# Altium integrated library TI_Logic_Flip-Flop,Latch,Register.IntLib: 2598 symbols (part 25 of 122)
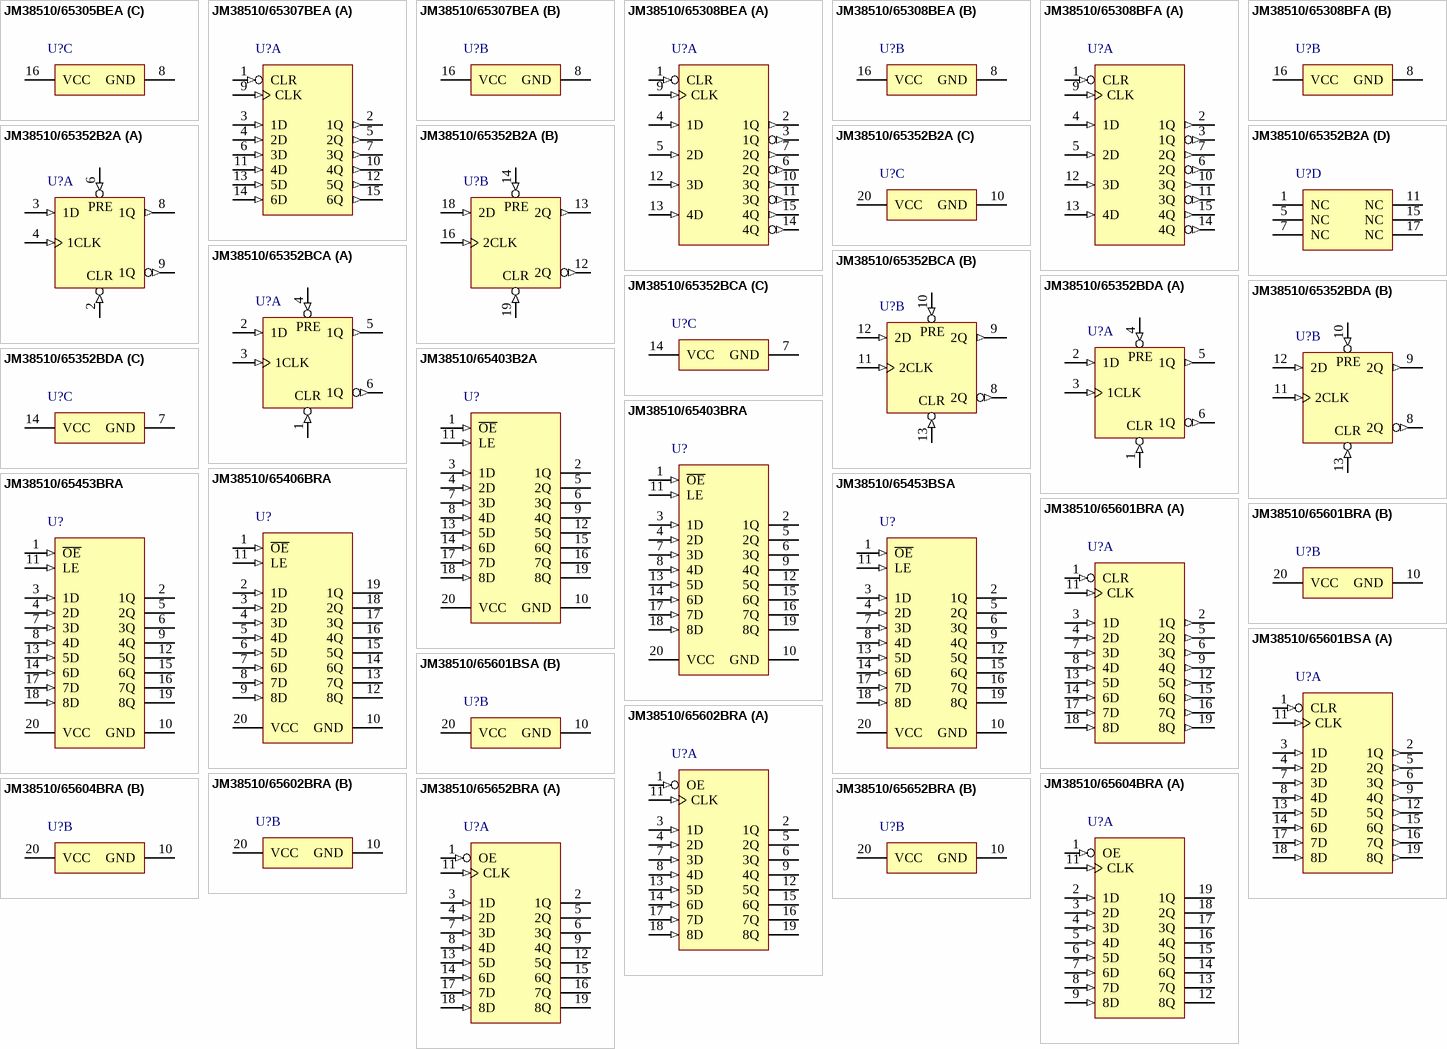
[diagram p163: symbols JM38510/65305BEA to JM38510/65652BRA]

## JM38510/65652BRA
designator U?
Octal D-type Edge-Triggered Flip-Flops with 3-State Outputs, J0020A, TUBE; Generic Part Number: SN54HCT374; Manufacturer: Texas Instruments; PartNumber: JM38510/65652BRA; VCC(Min)(V): 4.5; VCC(Max)(V): 5.5; Output Type: CMOS; ICC @ Nom Voltage(Max)(mA): 0.08; Input Type: TTL; Bits(#): 8; F @ Nom Voltage(Max)(Mhz): 25; Rating: Military; Technology Family: HCT; Schmitt Trigger: No; Output Drive (IOL/IOH)(Max)(mA): 6/-6; Output Logic: Non-inverted; 3-State Output: Yes; tpd @ Nom Voltage(Max)(ns): 41; DatasheetVersion: SCLS005D; PackageReference: J0020A; Operating Temperature Range(C): -55 to 125; ComponentLink1Description: Manufacturer URL; ComponentLink1URL: http://www.ti.com/; ComponentLink2Description: Datasheet; ComponentLink2URL: http://www.ti.com/lit/ds/symlink/sn54hct374.pdf; ComponentLink3Description: Package Specification; ComponentLink3URL: http://www.ti.com/lit/ml/mcer002d/mcer002d.pdf
footprint J0020A (DIP, 20-Leads, Body 26.9x7.2mm, Pitch 2.54mm)
part A pins: 1 OE (in), 2 1Q (hiz), 3 1D (in), 4 2D (in), 5 2Q (hiz), 6 3Q (hiz), 7 3D (in), 8 4D (in), 9 4Q (hiz), 11 CLK (in), 12 5Q (hiz), 13 5D (in), 14 6D (in), 15 6Q (hiz), 16 7Q (hiz), 17 7D (in), 18 8D (in), 19 8Q (hiz)
part B pins: 10 GND (power), 20 VCC (power)

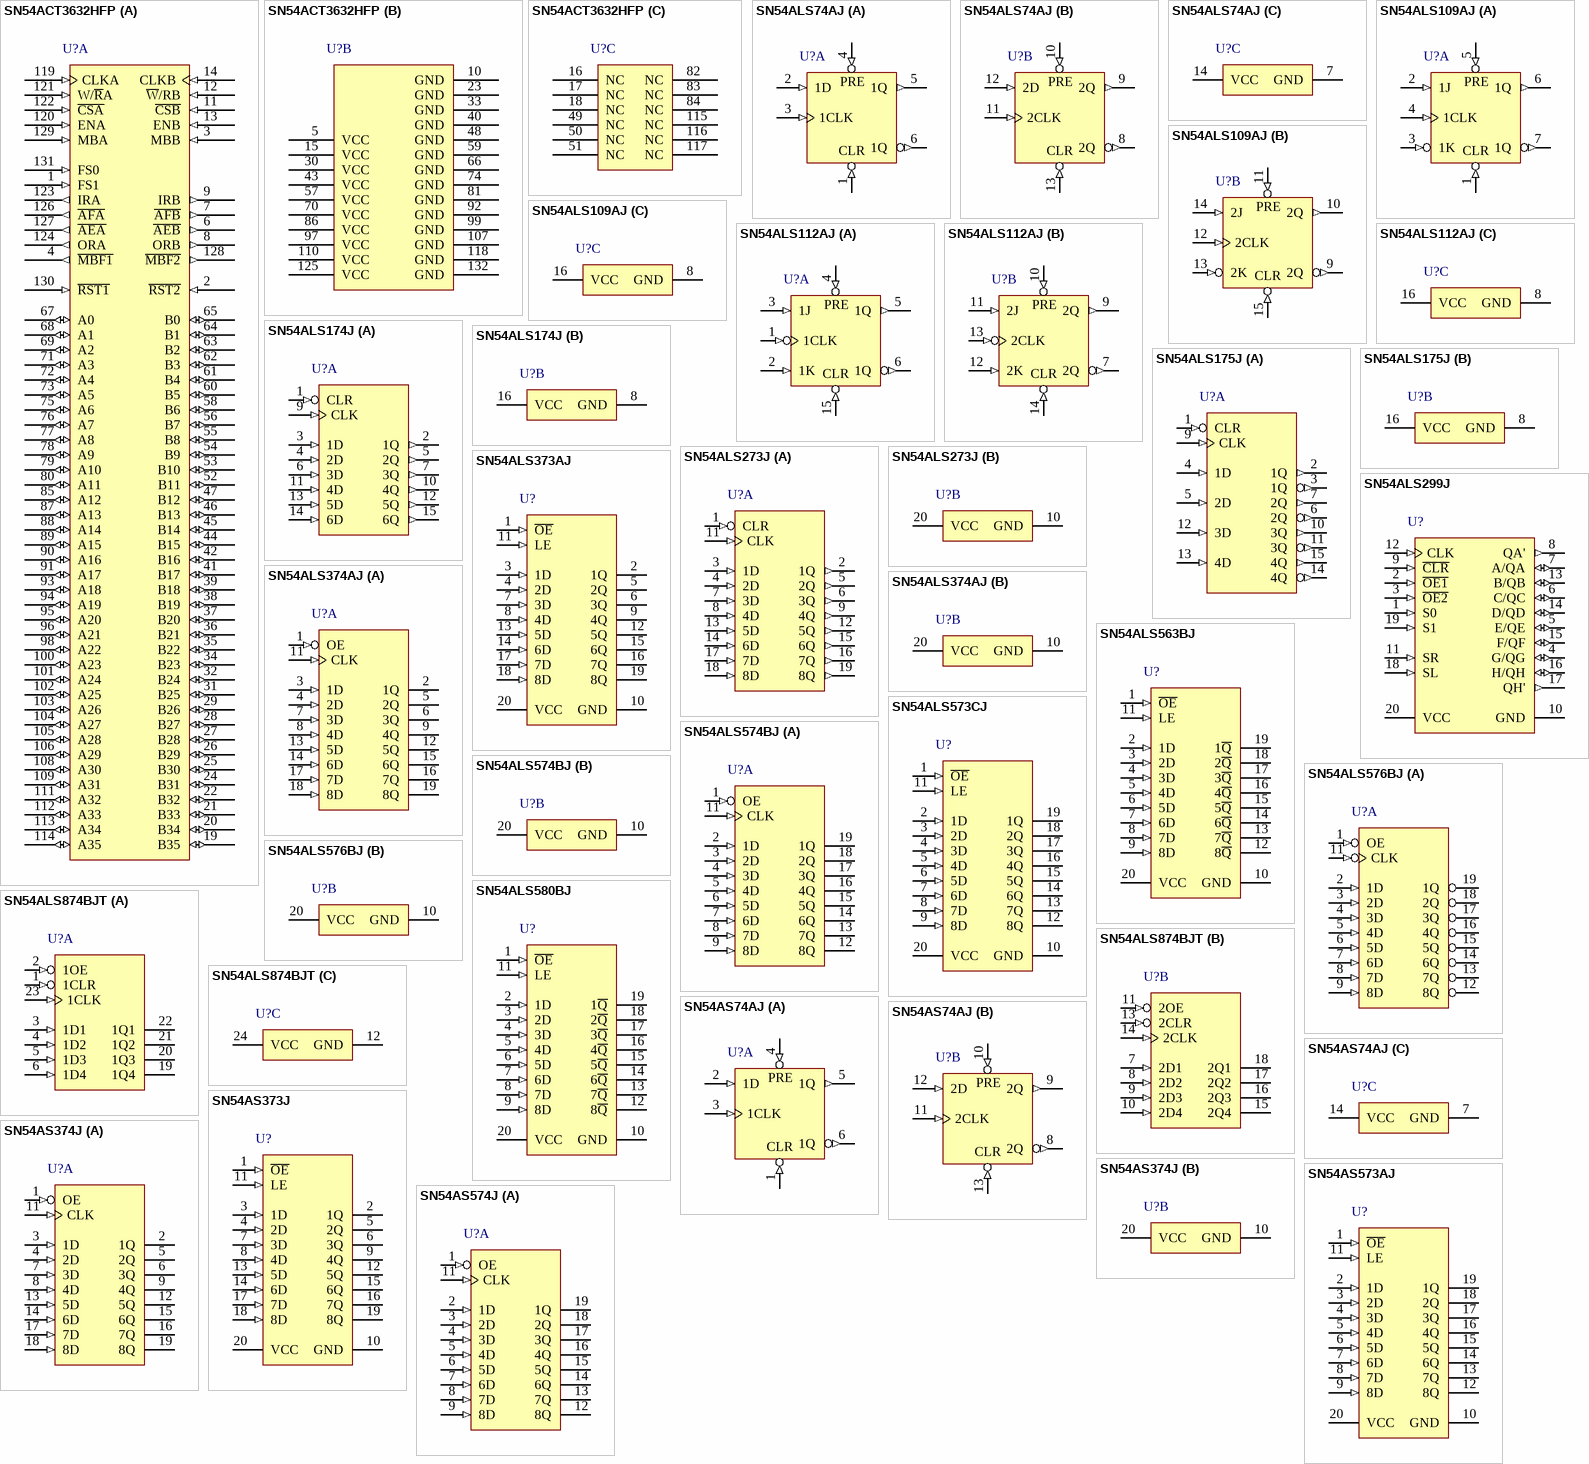
[diagram p36: symbols SN54ACT3632HFP to SN54AS574J]

## SN54ACT3632HFP
designator U?
512 x 36 x 2 Synchronous Bidirectional FIFO Memory, HFP-132, JEDEC TRAY (5+1); Generic Part Number: SN54ACT3632; Manufacturer: Texas Instruments; PartNumber: SN54ACT3632HFP; Vcc range(V): 4.5 to 5.5; Fmax(MHz): 50; Voltage Nodes(V): 5; Sync/Async: S; Rating: Military; DatasheetVersion: SGBS310A; PackageReference: HFP0132A; Depth: 512; Width: 36; Operating Temperature Range(C): -55 to 125; ComponentLink1Description: Manufacturer URL; ComponentLink1URL: http://www.ti.com/; ComponentLink2Description: Datasheet; ComponentLink2URL: http://www.ti.com/lit/ds/symlink/sn54act3632.pdf; ComponentLink3Description: Package Specification; ComponentLink3URL: http://www.ti.com/lit/ml/mgqf011/mgqf011.pdf
footprint HFP0132A_N (CQFP, 132-Leads, Body 24.13x24.13mm, Pitch 0.635mm, IPC Medium Density)
footprint HFP0132A_M (CQFP, 132-Leads, Body 24.13x24.13mm, Pitch 0.635mm, IPC Low Density)
footprint HFP0132A_L (CQFP, 132-Leads, Body 24.13x24.13mm, Pitch 0.635mm, IPC High Density)
part A pins: 1 FS1 (in) "Flag-offset selects. The low-to-high transition of a FIFO reset input latches the values of FS0 and FS1. If either FS0 or FS1 is high when a reset input goes high, one of three preset values is selected as the offset for the (See Datasheet)", 2 ~{RST2} (in) "FIFO2 reset. To reset FIFO2, four low-to-high transitions of CLKA and four low-to-high transitions of CLKB must occur while R\S\T\2\ is low. The low-to-high transition of R\S\T\2\ latches the status of FS0 and FS1 for A\F\B\ (See Datasheet)", 3 MBB (in) "Port-B mailbox select. A high level on MBB chooses a mailbox register for a port-B read or write operation. When the B0-B35 outputs are active, a high level on MBB selects data from the mail1 register for output and a low (See Datasheet)", 4 ~{MBF1} (out) "Mail1 register flag. M\B\F\1\ is set low by the low-to-high transition of CLKA that writes data to the mail1 register. Writes to the mail1 register are inhibited while M\B\F\1\ is low. M\B\F\1\ is set high by a low-to-high (See Datasheet)", 6 ~{AEB} (out) "Port-B almost-empty flag. Programmable flag synchronized to CLKB. A\E\B\ is low when the number of words in FIFO1 is less than or equal to the value in the almost-empty B offset register, X1.", 7 ~{AFB} (out) "Port-B almost-full flag. Programmable flag synchronized to CLKB. A\F\B\ is low when the number of empty locations in FIFO2 is less than or equal to the value in the almost-full B offset register, Y2.", 8 ORB (out) "Output-ready flag. ORB is synchronized to the low-to-high transition of CLKB. When ORB is low, FIFO1 is empty and reads from its memory are disabled. Ready data is present on the output register of FIFO1 when ORB is high. (See Datasheet)", 9 IRB (out) "Input-ready flag. IRB is synchronized to the low-to-high transition of CLKB. When IRB is low, FIFO2 is full and writes to its array are disabled. IRB is set low when FIFO2 is reset and is set high on the second low-to-high (See Datasheet)", 11 ~{CSB} (in) "Port-B chip select. C\S\B\ must be low to enable a low-to-high transition of CLKB to read or write data on port B. The B0-B35 outputs are in the high-impedance state when C\S\B\ is high.", 12 ~{W}/RB (in) "Port-B write/read select. A low on W\/RB selects a write operation and a high selects a read operation on port B for a low-to-high transition of CLKB. The B0-B35 outputs are in the high-impedance state when W\/RB is low.", 13 ENB (in) "Port-B enable. ENB must be high to enable a low-to-high transition of CLKB to read or write data on port B", 14 CLKB (in) "Port-B clock. CLKB is a continuous clock that synchronizes all data transfers through port B and can be asynchronous or coincident to CLKA. IRB, ORB, A\F\B\, and A\E\B\ are synchronized to the low-to-high transition of CLKB", 19 B35 (io) "Port-B data. The 36-bit bidirectional data port for side B.", 20 B34 (io) "Port-B data. The 36-bit bidirectional data port for side B.", 21 B33 (io) "Port-B data. The 36-bit bidirectional data port for side B.", 22 B32 (io) "Port-B data. The 36-bit bidirectional data port for side B.", 24 B31 (io) "Port-B data. The 36-bit bidirectional data port for side B.", 25 B30 (io) "Port-B data. The 36-bit bidirectional data port for side B.", 26 B29 (io) "Port-B data. The 36-bit bidirectional data port for side B.", 27 B28 (io) "Port-B data. The 36-bit bidirectional data port for side B.", 28 B27 (io) "Port-B data. The 36-bit bidirectional data port for side B.", 29 B26 (io) "Port-B data. The 36-bit bidirectional data port for side B.", 31 B25 (io) "Port-B data. The 36-bit bidirectional data port for side B.", 32 B24 (io) "Port-B data. The 36-bit bidirectional data port for side B.", 34 B23 (io) "Port-B data. The 36-bit bidirectional data port for side B.", 35 B22 (io) "Port-B data. The 36-bit bidirectional data port for side B.", 36 B21 (io) "Port-B data. The 36-bit bidirectional data port for side B.", 37 B20 (io) "Port-B data. The 36-bit bidirectional data port for side B.", 38 B19 (io) "Port-B data. The 36-bit bidirectional data port for side B.", 39 B18 (io) "Port-B data. The 36-bit bidirectional data port for side B.", 41 B17 (io) "Port-B data. The 36-bit bidirectional data port for side B.", 42 B16 (io) "Port-B data. The 36-bit bidirectional data port for side B.", 44 B15 (io) "Port-B data. The 36-bit bidirectional data port for side B.", 45 B14 (io) "Port-B data. The 36-bit bidirectional data port for side B.", 46 B13 (io) "Port-B data. The 36-bit bidirectional data port for side B.", 47 B12 (io) "Port-B data. The 36-bit bidirectional data port for side B.", 52 B11 (io) "Port-B data. The 36-bit bidirectional data port for side B.", 53 B10 (io) "Port-B data. The 36-bit bidirectional data port for side B.", 54 B9 (io) "Port-B data. The 36-bit bidirectional data port for side B.", 55 B8 (io) "Port-B data. The 36-bit bidirectional data port for side B.", 56 B7 (io) "Port-B data. The 36-bit bidirectional data port for side B.", 58 B6 (io) "Port-B data. The 36-bit bidirectional data port for side B.", 60 B5 (io) "Port-B data. The 36-bit bidirectional data port for side B.", 61 B4 (io) "Port-B data. The 36-bit bidirectional data port for side B.", 62 B3 (io) "Port-B data. The 36-bit bidirectional data port for side B.", 63 B2 (io) "Port-B data. The 36-bit bidirectional data port for side B.", 64 B1 (io) "Port-B data. The 36-bit bidirectional data port for side B.", 65 B0 (io) "Port-B data. The 36-bit bidirectional data port for side B.", 67 A0 (io) "Port-A data. The 36-bit bidirectional data port for side A.", 68 A1 (io) "Port-A data. The 36-bit bidirectional data port for side A.", 69 A2 (io) "Port-A data. The 36-bit bidirectional data port for side A.", 71 A3 (io) "Port-A data. The 36-bit bidirectional data port for side A.", 72 A4 (io) "Port-A data. The 36-bit bidirectional data port for side A.", 73 A5 (io) "Port-A data. The 36-bit bidirectional data port for side A.", 75 A6 (io) "Port-A data. The 36-bit bidirectional data port for side A.", 76 A7 (io) "Port-A data. The 36-bit bidirectional data port for side A.", 77 A8 (io) "Port-A data. The 36-bit bidirectional data port for side A.", 78 A9 (io) "Port-A data. The 36-bit bidirectional data port for side A.", 79 A10 (io) "Port-A data. The 36-bit bidirectional data port for side A.", 80 A11 (io) "Port-A data. The 36-bit bidirectional data port for side A.", 85 A12 (io) "Port-A data. The 36-bit bidirectional data port for side A.", 87 A13 (io) "Port-A data. The 36-bit bidirectional data port for side A.", 88 A14 (io) "Port-A data. The 36-bit bidirectional data port for side A.", 89 A15 (io) "Port-A data. The 36-bit bidirectional data port for side A.", 90 A16 (io) "Port-A data. The 36-bit bidirectional data port for side A.", 91 A17 (io) "Port-A data. The 36-bit bidirectional data port for side A.", 93 A18 (io) "Port-A data. The 36-bit bidirectional data port for side A.", 94 A19 (io) "Port-A data. The 36-bit bidirectional data port for side A.", 95 A20 (io) "Port-A data. The 36-bit bidirectional data port for side A.", 96 A21 (io) "Port-A data. The 36-bit bidirectional data port for side A.", 98 A22 (io) "Port-A data. The 36-bit bidirectional data port for side A.", 100 A23 (io) "Port-A data. The 36-bit bidirectional data port for side A.", 101 A24 (io) "Port-A data. The 36-bit bidirectional data port for side A.", 102 A25 (io) "Port-A data. The 36-bit bidirectional data port for side A.", 103 A26 (io) "Port-A data. The 36-bit bidirectional data port for side A.", 104 A27 (io) "Port-A data. The 36-bit bidirectional data port for side A.", 105 A28 (io) "Port-A data. The 36-bit bidirectional data port for side A.", 106 A29 (io) "Port-A data. The 36-bit bidirectional data port for side A.", 108 A30 (io) "Port-A data. The 36-bit bidirectional data port for side A.", 109 A31 (io) "Port-A data. The 36-bit bidirectional data port for side A.", 111 A32 (io) "Port-A data. The 36-bit bidirectional data port for side A.", 112 A33 (io) "Port-A data. The 36-bit bidirectional data port for side A.", 113 A34 (io) "Port-A data. The 36-bit bidirectional data port for side A.", 114 A35 (io) "Port-A data. The 36-bit bidirectional data port for side A.", 119 CLKA (in) "Port-A clock. CLKA is a continuous clock that synchronizes all data transfers through port A and can be asynchronous or coincident to CLKB. IRA, ORA, A\F\A\, and A\E\A\ are all synchronized to the low-to-high transition of (See Datasheet)", 120 ENA (in) "Port-A enable. ENA must be high to enable a low-to-high transition of CLKA to read or write data on port A.", 121 W/~{R}A (in) "Port-A write/read select. A high on W/R\A selects a write operation and a low selects a read operation on port A for a low-to-high transition of CLKA. The A0-A35 outputs are in the high-impedance state when W/R\A is high.", 122 ~{CSA} (in) "Port-A chip select. C\S\A\ must be low to enable a low-to-high transition of CLKA to read or write data on port A. The A0-A35 outputs are in the high-impedance state when C\S\A\ is high.", 123 IRA (out) "Input-ready flag. IRA is synchronized to the low-to-high transition of CLKA. When IRA is low, FIFO1 is full and writes to its array are disabled. IRA is set low when FIFO1 is reset and is set high on the second low-to-high (See Datasheet)", 124 ORA (out) "Output-ready flag. ORA is synchronized to the low-to-high transition of CLKA. When ORA is low, FIFO2 is empty and reads from its memory are disabled. Ready data is present on the output register of FIFO2 when ORA is high. (See Datasheet)", 126 ~{AFA} (out) "Port-A almost-full flag. Programmable flag synchronized to CLKA. A\F\A\ is low when the number of empty locations in FIFO1 is less than or equal to the value in the almost-full A offset register, Y1.", 127 ~{AEA} (out) "Port-A almost-empty flag. Programmable flag synchronized to CLKA. A\E\A\ is low when the number of words in FIFO2 is less than or equal to the value in the almost-empty A offset register, X2.", 128 ~{MBF2} (out) "Mail2 register flag. M\B\F\2\ is set low by the low-to-high transition of CLKB that writes data to the mail2 register. Writes to the mail2 register are inhibited while M\B\F\2\ is low. M\B\F\2\ is set high by a low-to-high (See Datasheet)", 129 MBA (in) "Port-A mailbox select. A high level on MBA chooses a mailbox register for a port-A read or write operation. When the A0-A35 outputs are active, a high level on MBA selects data from the mail2 register for output and a low (See Datasheet)", 130 ~{RST1} (in) "FIFO1 reset. To reset FIFO1, four low-to-high transitions of CLKA and four low-to-high transitions of CLKB must occur while R\S\T\1\ is low. The low-to-high transition of R\S\T\1\ latches the status of FS0 and FS1 for A\F\A\ (See Datasheet)", 131 FS0 (in) "Flag-offset selects. The low-to-high transition of a FIFO reset input latches the values of FS0 and FS1. If either FS0 or FS1 is high when a reset input goes high, one of three preset values is selected as the offset for the (See Datasheet)"
part B pins: 5 VCC (power), 10 GND (power), 15 VCC (power), 23 GND (power), 30 VCC (power), 33 GND (power), 40 GND (power), 43 VCC (power), 48 GND (power), 57 VCC (power), 59 GND (power), 66 GND (power), 70 VCC (power), 74 GND (power), 81 GND (power), 86 VCC (power), 92 GND (power), 97 VCC (power), 99 GND (power), 107 GND (power), 110 VCC (power), 118 GND (power), 125 VCC (power), 132 GND (power)
part C pins: 16 NC, 17 NC, 18 NC, 49 NC, 50 NC, 51 NC, 82 NC, 83 NC, 84 NC, 115 NC, 116 NC, 117 NC

## SN54ALS74AJ
designator U?
Dual Positive-Edge-Triggered D-type Flip-Flops With Clear And Preset, J0014A, TUBE; Generic Part Number: SN54ALS74A; Manufacturer: Texas Instruments; PartNumber: SN54ALS74AJ; VCC(Min)(V): 4.5; VCC(Max)(V): 5.5; Output Type: TTL; Output: 3S; ICC @ Nom Voltage(Max)(mA): 4; Bits(#): 2; F @ Nom Voltage(Max)(Mhz): 75; Rating: Military; Technology Family: ALS; Schmitt Trigger: No; Output Drive (IOL/IOH)(Max)(mA): 8/-0.4; Output Logic: Inverted,Non-inverted; tpd @ Nom Voltage(Max)(ns): 18; DatasheetVersion: SDAS143C; PackageReference: J0014A; Input Type: TTL; Operating Temperature Range(C): -55 to 125; 3-State Output: No; ComponentLink1Description: Manufacturer URL; ComponentLink1URL: http://www.ti.com/; ComponentLink2Description: Datasheet; ComponentLink2URL: http://www.ti.com/lit/ds/symlink/sn54als74a.pdf; ComponentLink3Description: Package Specification; ComponentLink3URL: http://www.ti.com/lit/ml/mcer002d/mcer002d.pdf
footprint J0014A (DIP, 14-Leads, Body 19.95x7.2mm, Pitch 2.54mm)
part A pins: 1 1~{CLR} (in), 2 1D (in), 3 1CLK (in), 4 1~{PRE} (in), 5 1Q (out), 6 1Q (out)
part B pins: 8 2Q (out), 9 2Q (out), 10 2~{PRE} (in), 11 2CLK (in), 12 2D (in), 13 2~{CLR} (in)
part C pins: 7 GND (power), 14 VCC (power)
part A text: PRE; CLR
part B text: PRE; CLR

## SN54ALS109AJ
designator U?
Dual J-K Positive-Edge-Triggered Flip-Flops With Clear And Preset, J0016A, TUBE; Generic Part Number: SN54ALS109A; Manufacturer: Texas Instruments; PartNumber: SN54ALS109AJ; VCC(Min)(V): 4.5; VCC(Max)(V): 5.5; Output Type: TTL; Output: 2S; Bits(#): 2; Rating: Military; Technology Family: ALS; Schmitt Trigger: No; DatasheetVersion: SDAS198B; PackageReference: J0016A; Input Type: TTL; Operating Temperature Range(C): -55 to 125; ComponentLink1Description: Manufacturer URL; ComponentLink1URL: http://www.ti.com/; ComponentLink2Description: Datasheet; ComponentLink2URL: http://www.ti.com/lit/ds/symlink/sn54als109a.pdf; ComponentLink3Description: Package Specification; ComponentLink3URL: http://www.ti.com/lit/ml/mcer002d/mcer002d.pdf
footprint J0016A (DIP, 16-Leads, Body 21.35x7.2mm, Pitch 2.54mm)
part A pins: 1 1~{CLR} (in), 2 1J (in), 3 1K (in), 4 1CLK (in), 5 1~{PRE} (in), 6 1Q (out), 7 1Q (out)
part B pins: 9 2Q (out), 10 2Q (out), 11 2~{PRE} (in), 12 2CLK (in), 13 2K (in), 14 2J (in), 15 2~{CLR} (in)
part C pins: 8 GND (power), 16 VCC (power)
part A text: PRE; CLR
part B text: PRE; CLR

## SN54ALS112AJ
designator U?
Dual J-K Negative-Edge-Triggered Flip-Flops With Clear And Preset, J0016A, TUBE; Generic Part Number: SN54ALS112A; Manufacturer: Texas Instruments; PartNumber: SN54ALS112AJ; VCC(Min)(V): 4.5; VCC(Max)(V): 5.5; Output Type: TTL; Output: 2S; Bits(#): 2; Rating: Military; Technology Family: ALS; Schmitt Trigger: No; DatasheetVersion: SDAS199A; PackageReference: J0016A; Input Type: TTL; Operating Temperature Range(C): -55 to 125; ComponentLink1Description: Manufacturer URL; ComponentLink1URL: http://www.ti.com/; ComponentLink2Description: Datasheet; ComponentLink2URL: http://www.ti.com/lit/ds/symlink/sn54als112a.pdf; ComponentLink3Description: Package Specification; ComponentLink3URL: http://www.ti.com/lit/ml/mcer002d/mcer002d.pdf
footprint J0016A (DIP, 16-Leads, Body 21.35x7.2mm, Pitch 2.54mm)
part A pins: 1 1CLK (in), 2 1K (in), 3 1J (in), 4 1~{PRE} (in), 5 1Q (out), 6 1Q (out), 15 1~{CLR} (in)
part B pins: 7 2Q (out), 9 2Q (out), 10 2~{PRE} (in), 11 2J (in), 12 2K (in), 13 2CLK (in), 14 2~{CLR} (in)
part C pins: 8 GND (power), 16 VCC (power)
part A text: PRE; CLR
part B text: PRE; CLR

## SN54ALS174J
designator U?
Hex D-type Flip-Flops With Clear, J0016A, TUBE; Generic Part Number: SN54ALS174; Manufacturer: Texas Instruments; PartNumber: SN54ALS174J; VCC(Min)(V): 4.5; VCC(Max)(V): 5.5; Output Type: TTL; Output: 2S; ICC @ Nom Voltage(Max)(mA): 19; Bits(#): 6; F @ Nom Voltage(Max)(Mhz): 75; Rating: Military; Technology Family: ALS; Schmitt Trigger: No; Output Drive (IOL/IOH)(Max)(mA): 8/-0.4; Output Logic: Inverted,Non-inverted; tpd @ Nom Voltage(Max)(ns): 17; DatasheetVersion: SDAS207E; PackageReference: J0016A; Input Type: TTL; Operating Temperature Range(C): -55 to 125; 3-State Output: No; ComponentLink1Description: Manufacturer URL; ComponentLink1URL: http://www.ti.com/; ComponentLink2Description: Datasheet; ComponentLink2URL: http://www.ti.com/lit/ds/symlink/sn54als174.pdf; ComponentLink3Description: Package Specification; ComponentLink3URL: http://www.ti.com/lit/ml/mcer002d/mcer002d.pdf
footprint J0016A (DIP, 16-Leads, Body 21.35x7.2mm, Pitch 2.54mm)
part A pins: 1 CLR (in), 2 1Q (out), 3 1D (in), 4 2D (in), 5 2Q (out), 6 3D (in), 7 3Q (out), 9 CLK (in), 10 4Q (out), 11 4D (in), 12 5Q (out), 13 5D (in), 14 6D (in), 15 6Q (out)
part B pins: 8 GND (power), 16 VCC (power)

## SN54ALS175J
designator U?
Quadruple D-type Flip-Flops With Clear, J0016A, TUBE; Generic Part Number: SN54ALS175; Manufacturer: Texas Instruments; PartNumber: SN54ALS175J; VCC(Min)(V): 4.5; VCC(Max)(V): 5.5; Output Type: TTL; Output: 2S; ICC @ Nom Voltage(Max)(mA): 14; Bits(#): 4; F @ Nom Voltage(Max)(Mhz): 75; Rating: Military; Technology Family: ALS; Schmitt Trigger: No; Output Drive (IOL/IOH)(Max)(mA): 8/-0.4; Output Logic: Inverted,Non-inverted; tpd @ Nom Voltage(Max)(ns): 17; DatasheetVersion: SDAS207E; PackageReference: J0016A; Input Type: TTL; Operating Temperature Range(C): -55 to 125; 3-State Output: No; ComponentLink1Description: Manufacturer URL; ComponentLink1URL: http://www.ti.com/; ComponentLink2Description: Datasheet; ComponentLink2URL: http://www.ti.com/lit/ds/symlink/sn54als175.pdf; ComponentLink3Description: Package Specification; ComponentLink3URL: http://www.ti.com/lit/ml/mcer002d/mcer002d.pdf
footprint J0016A (DIP, 16-Leads, Body 21.35x7.2mm, Pitch 2.54mm)
part A pins: 1 CLR (in), 2 1Q (out), 3 1Q (out), 4 1D (in), 5 2D (in), 6 2Q (out), 7 2Q (out), 9 CLK (in), 10 3Q (out), 11 3Q (out), 12 3D (in), 13 4D (in), 14 4Q (out), 15 4Q (out)
part B pins: 8 GND (power), 16 VCC (power)

## SN54ALS273J
designator U?
Octal D-type Flip-Flops With Clear, J0020A, TUBE; Generic Part Number: SN54ALS273; Manufacturer: Texas Instruments; PartNumber: SN54ALS273J; VCC(Min)(V): 4.5; VCC(Max)(V): 5.5; Output Type: TTL; Output: 2S; ICC @ Nom Voltage(Max)(mA): 29; Bits(#): 8; F @ Nom Voltage(Max)(Mhz): 75; Rating: Military; Technology Family: ALS; Schmitt Trigger: No; Output Drive (IOL/IOH)(Max)(mA): 24/-2.6; Output Logic: Non-inverted; tpd @ Nom Voltage(Max)(ns): 15; DatasheetVersion: SDAS218A; PackageReference: J0020A; Input Type: TTL; Operating Temperature Range(C): -55 to 125; 3-State Output: No; ComponentLink1Description: Manufacturer URL; ComponentLink1URL: http://www.ti.com/; ComponentLink2Description: Datasheet; ComponentLink2URL: http://www.ti.com/lit/ds/symlink/sn54als273.pdf; ComponentLink3Description: Package Specification; ComponentLink3URL: http://www.ti.com/lit/ml/mcer002d/mcer002d.pdf
footprint J0020A (DIP, 20-Leads, Body 26.9x7.2mm, Pitch 2.54mm)
part A pins: 1 CLR (in) "Clear Pin", 2 1Q (out) "1Q Output", 3 1D (in) "1D Input", 4 2D (in) "2D Input", 5 2Q (out) "2Q Output", 6 3Q (out) "3Q Output", 7 3D (in) "3D Input", 8 4D (in) "4D Input", 9 4Q (out) "4Q Output", 11 CLK (in) "Clock Pin", 12 5Q (out) "5Q Output", 13 5D (in) "5D Input", 14 6D (in) "6D Input", 15 6Q (out) "6Q Output", 16 7Q (out) "7Q Output", 17 7D (in) "7D Input", 18 8D (in) "8D Input", 19 8Q (out) "8Q Output"
part B pins: 10 GND (power) "Ground Pin", 20 VCC (power) "Power Pin"

## SN54ALS299J
designator U?
8-Bit Universal Shift/Storage Registers With 3-State Outputs, J0020A, TUBE; Generic Part Number: SN54ALS299; Manufacturer: Texas Instruments; PartNumber: SN54ALS299J; Technology Family: ALS; VCC(Min)(V): 4.5; VCC(Max)(V): 5.5; F @ Nom Voltage(Max)(Mhz): 75; ICC @ Nom Voltage(Max)(mA): 40; tpd @ Nom Voltage(Max)(ns): 19; Output Drive (IOL/IOH)(Max)(mA): 24/-2.6; Input Type: TTL; 3-State Output: Yes; Rating: Military; DatasheetVersion: SDAS220B; PackageReference: J0020A; Voltage(Nom)(V): 5.5; Output Type: TTL; Operating Temperature Range(C): -55 to 125; ComponentLink1Description: Manufacturer URL; ComponentLink1URL: http://www.ti.com/; ComponentLink2Description: Datasheet; ComponentLink2URL: http://www.ti.com/lit/ds/symlink/sn54als299.pdf; ComponentLink3Description: Package Specification; ComponentLink3URL: http://www.ti.com/lit/ml/mcer002d/mcer002d.pdf
footprint J0020A (DIP, 20-Leads, Body 26.9x7.2mm, Pitch 2.54mm)
pins: 1 S0 (in), 2 ~{OE1} (in), 3 ~{OE2} (in), 4 G/QG (io), 5 E/QE (io), 6 C/QC (io), 7 A/QA (io), 8 QA' (out), 9 ~{CLR} (in), 10 GND (power), 11 SR (in), 12 CLK (in), 13 B/QB (io), 14 D/QD (io), 15 F/QF (io), 16 H/QH (io), 17 QH' (out), 18 SL (in), 19 S1 (in), 20 VCC (power)

## SN54ALS373AJ
designator U?
Octal D-Type Transparent Latches with 3-state Outputs, J0020A, TUBE; Generic Part Number: SN54ALS373A; Manufacturer: Texas Instruments; PartNumber: SN54ALS373AJ; VCC(Min)(V): 4.5; VCC(Max)(V): 5.5; Output Type: TTL; Logic: True; Static Current: 27 mA; ICC @ Nom Voltage(Max)(mA): 27; Bits(#): 8; F @ Nom Voltage(Max)(Mhz): 75; Rating: Military; Technology Family: ALS; Schmitt Trigger: No; Output Drive (IOL/IOH)(Max)(mA): 24/-2.6; Output Logic: Non-inverted; 3-State Output: Yes; tpd @ Nom Voltage(Max)(ns): 16; DatasheetVersion: SDAS083C; PackageReference: J0020A; Input Type: TTL; Operating Temperature Range(C): -55 to 125; ComponentLink1Description: Manufacturer URL; ComponentLink1URL: http://www.ti.com/; ComponentLink2Description: Datasheet; ComponentLink2URL: http://www.ti.com/lit/ds/symlink/sn54als373a.pdf; ComponentLink3Description: Package Specification; ComponentLink3URL: http://www.ti.com/lit/ml/mcer002d/mcer002d.pdf
footprint J0020A (DIP, 20-Leads, Body 26.9x7.2mm, Pitch 2.54mm)
pins: 1 ~{OE} (in) "Output Enable", 2 1Q (hiz) "1Q Output", 3 1D (in) "1D Input", 4 2D (in) "2D Input", 5 2Q (hiz) "2Q Output", 6 3Q (hiz) "3Q Output", 7 3D (in) "3D Input", 8 4D (in) "4D Input", 9 4Q (hiz) "4Q Output", 10 GND (power) "Ground Pin", 11 LE (in) "Latch Enable", 12 5Q (hiz) "5Q Output", 13 5D (in) "5D Input", 14 6D (in) "6D Input", 15 6Q (hiz) "6Q Output", 16 7Q (hiz) "7Q Output", 17 7D (in) "7D Input", 18 8D (in) "8D Input", 19 8Q (hiz) "8Q Output", 20 VCC (power) "Power Pin"

## SN54ALS374AJ
designator U?
Octal D-Type Edge Triggered Flip-Flops with 3-State Outputs, J0020A, TUBE; Generic Part Number: SN54ALS374A; Manufacturer: Texas Instruments; PartNumber: SN54ALS374AJ; VCC(Min)(V): 4.5; VCC(Max)(V): 5.5; Output Type: TTL; ICC @ Nom Voltage(Max)(mA): 31; Bits(#): 8; F @ Nom Voltage(Max)(Mhz): 75; Rating: Military; Technology Family: ALS; Schmitt Trigger: No; Output Drive (IOL/IOH)(Max)(mA): 24/-2.6; Output Logic: Non-inverted; 3-State Output: Yes; tpd @ Nom Voltage(Max)(ns): 16; DatasheetVersion: SDAS167C; PackageReference: J0020A; Input Type: TTL; Operating Temperature Range(C): -55 to 125; ComponentLink1Description: Manufacturer URL; ComponentLink1URL: http://www.ti.com/; ComponentLink2Description: Datasheet; ComponentLink2URL: http://www.ti.com/lit/ds/symlink/sn54als374a.pdf; ComponentLink3Description: Package Specification; ComponentLink3URL: http://www.ti.com/lit/ml/mcer002d/mcer002d.pdf
footprint J0020A (DIP, 20-Leads, Body 26.9x7.2mm, Pitch 2.54mm)
part A pins: 1 OE (in), 2 1Q (hiz), 3 1D (in), 4 2D (in), 5 2Q (hiz), 6 3Q (hiz), 7 3D (in), 8 4D (in), 9 4Q (hiz), 11 CLK (in), 12 5Q (hiz), 13 5D (in), 14 6D (in), 15 6Q (hiz), 16 7Q (hiz), 17 7D (in), 18 8D (in), 19 8Q (hiz)
part B pins: 10 GND (power), 20 VCC (power)

## SN54ALS563BJ
designator U?
Octal D-type Transparent Latches With 3-State Outputs, J0020A, TUBE; Generic Part Number: SN54ALS563B; Manufacturer: Texas Instruments; PartNumber: SN54ALS563BJ; VCC(Min)(V): 4.5; VCC(Max)(V): 5.5; Output Type: TTL; Logic: Inverting; ICC @ Nom Voltage(Max)(mA): 29; Bits(#): 8; F @ Nom Voltage(Max)(Mhz): 75; Rating: Military; Technology Family: ALS; Schmitt Trigger: No; Output Drive (IOL/IOH)(Max)(mA): 24/-2.6; Output Logic: Inverted; 3-State Output: Yes; tpd @ Nom Voltage(Max)(ns): 18; DatasheetVersion: SDAS163B; PackageReference: J0020A; Input Type: TTL; Operating Temperature Range(C): -55 to 125; ComponentLink1Description: Manufacturer URL; ComponentLink1URL: http://www.ti.com/; ComponentLink2Description: Datasheet; ComponentLink2URL: http://www.ti.com/lit/ds/symlink/sn54als563b.pdf; ComponentLink3Description: Package Specification; ComponentLink3URL: http://www.ti.com/lit/ml/mcer002d/mcer002d.pdf
footprint J0020A (DIP, 20-Leads, Body 26.9x7.2mm, Pitch 2.54mm)
pins: 1 ~{OE} (in), 2 1D (in), 3 2D (in), 4 3D (in), 5 4D (in), 6 5D (in), 7 6D (in), 8 7D (in), 9 8D (in), 10 GND (power), 11 LE (in), 12 8~{Q} (hiz), 13 7~{Q} (hiz), 14 6~{Q} (hiz), 15 5~{Q} (hiz), 16 4~{Q} (hiz), 17 3~{Q} (hiz), 18 2~{Q} (hiz), 19 1~{Q} (hiz), 20 VCC (power)

## SN54ALS573CJ
designator U?
Octal D-type Transparent Latches With 3-State Outputs, J0020A, TUBE; Generic Part Number: SN54ALS573C; Manufacturer: Texas Instruments; PartNumber: SN54ALS573CJ; VCC(Min)(V): 4.5; VCC(Max)(V): 5.5; Output Type: TTL; Logic: True; ICC @ Nom Voltage(Max)(mA): 27; Bits(#): 8; F @ Nom Voltage(Max)(Mhz): 75; Rating: Military; Technology Family: ALS; Schmitt Trigger: No; Output Drive (IOL/IOH)(Max)(mA): 24/-2.6; Output Logic: Non-inverted; 3-State Output: Yes; tpd @ Nom Voltage(Max)(ns): 14; DatasheetVersion: SDAS048D; PackageReference: J0020A; Input Type: TTL; Operating Temperature Range(C): -55 to 125; ComponentLink1Description: Manufacturer URL; ComponentLink1URL: http://www.ti.com/; ComponentLink2Description: Datasheet; ComponentLink2URL: http://www.ti.com/lit/ds/symlink/sn54als573c.pdf; ComponentLink3Description: Package Specification; ComponentLink3URL: http://www.ti.com/lit/ml/mcer002d/mcer002d.pdf
footprint J0020A (DIP, 20-Leads, Body 26.9x7.2mm, Pitch 2.54mm)
pins: 1 ~{OE} (in), 2 1D (in), 3 2D (in), 4 3D (in), 5 4D (in), 6 5D (in), 7 6D (in), 8 7D (in), 9 8D (in), 10 GND (power), 11 LE (in), 12 8Q (hiz), 13 7Q (hiz), 14 6Q (hiz), 15 5Q (hiz), 16 4Q (hiz), 17 3Q (hiz), 18 2Q (hiz), 19 1Q (hiz), 20 VCC (power)

## SN54ALS574BJ
designator U?
Octal D-type Edge-Triggered Flip-Flops With 3-State Outputs, J0020A, TUBE; Generic Part Number: SN54ALS574B; Manufacturer: Texas Instruments; PartNumber: SN54ALS574BJ; VCC(Min)(V): 4.5; VCC(Max)(V): 5.5; Output Type: TTL; ICC @ Nom Voltage(Max)(mA): 30; Bits(#): 8; F @ Nom Voltage(Max)(Mhz): 75; Rating: Military; Technology Family: ALS; Schmitt Trigger: No; Output Drive (IOL/IOH)(Max)(mA): 24/-2.6; Output Logic: Non-inverted; 3-State Output: Yes; tpd @ Nom Voltage(Max)(ns): 14; DatasheetVersion: SDAS165B; PackageReference: J0020A; Input Type: TTL; Operating Temperature Range(C): -55 to 125; ComponentLink1Description: Manufacturer URL; ComponentLink1URL: http://www.ti.com/; ComponentLink2Description: Datasheet; ComponentLink2URL: http://www.ti.com/lit/ds/symlink/sn54als574b.pdf; ComponentLink3Description: Package Specification; ComponentLink3URL: http://www.ti.com/lit/ml/mcer002d/mcer002d.pdf
footprint J0020A (DIP, 20-Leads, Body 26.9x7.2mm, Pitch 2.54mm)
part A pins: 1 OE (in), 2 1D (in), 3 2D (in), 4 3D (in), 5 4D (in), 6 5D (in), 7 6D (in), 8 7D (in), 9 8D (in), 11 CLK (in), 12 8Q (hiz), 13 7Q (hiz), 14 6Q (hiz), 15 5Q (hiz), 16 4Q (hiz), 17 3Q (hiz), 18 2Q (hiz), 19 1Q (hiz)
part B pins: 10 GND (power), 20 VCC (power)

## SN54ALS576BJ
designator U?
Octal D-type Edge-Triggered Flip-Flops With 3-State Outputs, J0020A, TUBE; Generic Part Number: SN54ALS576B; Manufacturer: Texas Instruments; PartNumber: SN54ALS576BJ; VCC(Min)(V): 4.5; VCC(Max)(V): 5.5; Output Type: TTL; ICC @ Nom Voltage(Max)(mA): 30; Bits(#): 8; F @ Nom Voltage(Max)(Mhz): 75; Rating: Military; Technology Family: ALS; Schmitt Trigger: No; Output Drive (IOL/IOH)(Max)(mA): 24/-2.6; Output Logic: Inverted; 3-State Output: Yes; tpd @ Nom Voltage(Max)(ns): 14; DatasheetVersion: SDAS065B; PackageReference: J0020A; Input Type: TTL; Operating Temperature Range(C): -55 to 125; ComponentLink1Description: Manufacturer URL; ComponentLink1URL: http://www.ti.com/; ComponentLink2Description: Datasheet; ComponentLink2URL: http://www.ti.com/lit/ds/symlink/sn54als576b.pdf; ComponentLink3Description: Package Specification; ComponentLink3URL: http://www.ti.com/lit/ml/mcer002d/mcer002d.pdf
footprint J0020A (DIP, 20-Leads, Body 26.9x7.2mm, Pitch 2.54mm)
part A pins: 1 OE (in), 2 1D (in), 3 2D (in), 4 3D (in), 5 4D (in), 6 5D (in), 7 6D (in), 8 7D (in), 9 8D (in), 11 CLK (in), 12 8Q (hiz), 13 7Q (hiz), 14 6Q (hiz), 15 5Q (hiz), 16 4Q (hiz), 17 3Q (hiz), 18 2Q (hiz), 19 1Q (hiz)
part B pins: 10 GND (power), 20 VCC (power)

## SN54ALS580BJ
designator U?
Octal D-type Transparent Latches With 3-State Outputs, J0020A, TUBE; Generic Part Number: SN54ALS580B; Manufacturer: Texas Instruments; PartNumber: SN54ALS580BJ; VCC(Min)(V): 4.5; VCC(Max)(V): 5.5; Output Type: TTL; Logic: Inverting; ICC @ Nom Voltage(Max)(mA): 29; Bits(#): 8; F @ Nom Voltage(Max)(Mhz): 75; Rating: Military; Technology Family: ALS; Schmitt Trigger: No; Output Drive (IOL/IOH)(Max)(mA): 24/-2.6; Output Logic: Inverted; 3-State Output: Yes; tpd @ Nom Voltage(Max)(ns): 18; DatasheetVersion: SDAS277; PackageReference: J0020A; Input Type: TTL; Operating Temperature Range(C): -55 to 125; ComponentLink1Description: Manufacturer URL; ComponentLink1URL: http://www.ti.com/; ComponentLink2Description: Datasheet; ComponentLink2URL: http://www.ti.com/lit/ds/symlink/sn54als580b.pdf; ComponentLink3Description: Package Specification; ComponentLink3URL: http://www.ti.com/lit/ml/mcer002d/mcer002d.pdf
footprint J0020A (DIP, 20-Leads, Body 26.9x7.2mm, Pitch 2.54mm)
pins: 1 ~{OE} (in), 2 1D (in), 3 2D (in), 4 3D (in), 5 4D (in), 6 5D (in), 7 6D (in), 8 7D (in), 9 8D (in), 10 GND (power), 11 LE (in), 12 8~{Q} (hiz), 13 7~{Q} (hiz), 14 6~{Q} (hiz), 15 5~{Q} (hiz), 16 4~{Q} (hiz), 17 3~{Q} (hiz), 18 2~{Q} (hiz), 19 1~{Q} (hiz), 20 VCC (power)

## SN54ALS874BJT
designator U?
Octal 4-Bit D-type Edge-Triggered Flip-Flops with 3-state Outputs, JT0024A, TUBE; Generic Part Number: SN54ALS874B; Manufacturer: Texas Instruments; PartNumber: SN54ALS874BJT; VCC(Min)(V): 4.5; VCC(Max)(V): 5.5; Output Type: TTL; ICC @ Nom Voltage(Max)(mA): 31; Bits(#): 8; F @ Nom Voltage(Max)(Mhz): 75; Rating: Military; Technology Family: ALS; Schmitt Trigger: No; Output Drive (IOL/IOH)(Max)(mA): 24/-2.6; Output Logic: Non-inverted; 3-State Output: Yes; tpd @ Nom Voltage(Max)(ns): 14; DatasheetVersion: SDAS061C; PackageReference: JT0024A; Input Type: TTL; Operating Temperature Range(C): -55 to 125; Code_JEDEC: MO-058 AA; ComponentLink1Description: Manufacturer URL; ComponentLink1URL: http://www.ti.com/; ComponentLink2Description: Datasheet; ComponentLink2URL: http://www.ti.com/lit/ds/symlink/sn54als874b.pdf; ComponentLink3Description: Package Specification; ComponentLink3URL: http://www.ti.com/lit/ml/mcer004a/mcer004a.pdf
footprint JT0024A (DIP, 24-Leads, Body 7.2x32.5mm, Pitch 2.54mm)
part A pins: 1 1CLR (in), 2 1OE (in), 3 1D1 (in), 4 1D2 (in), 5 1D3 (in), 6 1D4 (in), 19 1Q4 (hiz), 20 1Q3 (hiz), 21 1Q2 (hiz), 22 1Q1 (hiz), 23 1CLK (in)
part B pins: 7 2D1 (in), 8 2D2 (in), 9 2D3 (in), 10 2D4 (in), 11 2OE (in), 13 2CLR (in), 14 2CLK (in), 15 2Q4 (hiz), 16 2Q3 (hiz), 17 2Q2 (hiz), 18 2Q1 (hiz)
part C pins: 12 GND (power), 24 VCC (power)

## SN54AS74AJ
designator U?
Dual Positive-Edge-Triggered D-type Flip-Flops With Clear And Preset, J0014A, TUBE; Generic Part Number: SN54AS74A; Manufacturer: Texas Instruments; PartNumber: SN54AS74AJ; VCC(Min)(V): 4.5; VCC(Max)(V): 5.5; Output Type: TTL; Output: 3S; ICC @ Nom Voltage(Max)(mA): 16; Bits(#): 2; F @ Nom Voltage(Max)(Mhz): 125; Rating: Military; Technology Family: AS; Schmitt Trigger: No; Output Drive (IOL/IOH)(Max)(mA): 20/-2; Output Logic: Inverted,Non-inverted; tpd @ Nom Voltage(Max)(ns): 9; DatasheetVersion: SDAS143C; PackageReference: J0014A; Input Type: TTL; Operating Temperature Range(C): -55 to 125; 3-State Output: No; ComponentLink1Description: Manufacturer URL; ComponentLink1URL: http://www.ti.com/; ComponentLink2Description: Datasheet; ComponentLink2URL: http://www.ti.com/lit/ds/symlink/sn54as74a.pdf; ComponentLink3Description: Package Specification; ComponentLink3URL: http://www.ti.com/lit/ml/mcer002d/mcer002d.pdf
footprint J0014A (DIP, 14-Leads, Body 19.95x7.2mm, Pitch 2.54mm)
part A pins: 1 1~{CLR} (in), 2 1D (in), 3 1CLK (in), 4 1~{PRE} (in), 5 1Q (out), 6 1Q (out)
part B pins: 8 2Q (out), 9 2Q (out), 10 2~{PRE} (in), 11 2CLK (in), 12 2D (in), 13 2~{CLR} (in)
part C pins: 7 GND (power), 14 VCC (power)
part A text: PRE; CLR
part B text: PRE; CLR

## SN54AS373J
designator U?
Octal D-Type Transparent Latches with 3-state Outputs, J0020A, TUBE; Generic Part Number: SN54AS373; Manufacturer: Texas Instruments; PartNumber: SN54AS373J; VCC(Min)(V): 4.5; VCC(Max)(V): 5.5; Output Type: TTL; Logic: True; ICC @ Nom Voltage(Max)(mA): 100; Bits(#): 8; F @ Nom Voltage(Max)(Mhz): 125; Rating: Military; Technology Family: AS; Schmitt Trigger: No; Output Drive (IOL/IOH)(Max)(mA): 48/-15; Output Logic: Non-inverted; 3-State Output: Yes; tpd @ Nom Voltage(Max)(ns): 6; DatasheetVersion: SDAS083C; PackageReference: J0020A; Input Type: TTL; Operating Temperature Range(C): -55 to 125; ComponentLink1Description: Manufacturer URL; ComponentLink1URL: http://www.ti.com/; ComponentLink2Description: Datasheet; ComponentLink2URL: http://www.ti.com/lit/ds/symlink/sn54as373.pdf; ComponentLink3Description: Package Specification; ComponentLink3URL: http://www.ti.com/lit/ml/mcer002d/mcer002d.pdf
footprint J0020A (DIP, 20-Leads, Body 26.9x7.2mm, Pitch 2.54mm)
pins: 1 ~{OE} (in) "Output Enable", 2 1Q (hiz) "1Q Output", 3 1D (in) "1D Input", 4 2D (in) "2D Input", 5 2Q (hiz) "2Q Output", 6 3Q (hiz) "3Q Output", 7 3D (in) "3D Input", 8 4D (in) "4D Input", 9 4Q (hiz) "4Q Output", 10 GND (power) "Ground Pin", 11 LE (in) "Latch Enable", 12 5Q (hiz) "5Q Output", 13 5D (in) "5D Input", 14 6D (in) "6D Input", 15 6Q (hiz) "6Q Output", 16 7Q (hiz) "7Q Output", 17 7D (in) "7D Input", 18 8D (in) "8D Input", 19 8Q (hiz) "8Q Output", 20 VCC (power) "Power Pin"

## SN54AS374J
designator U?
Octal D-Type Edge Triggered Flip-Flops with 3-State Outputs, J0020A, TUBE; Generic Part Number: SN54AS374; Manufacturer: Texas Instruments; PartNumber: SN54AS374J; VCC(Min)(V): 4.5; VCC(Max)(V): 5.5; Output Type: TTL; ICC @ Nom Voltage(Max)(mA): 128; Bits(#): 8; F @ Nom Voltage(Max)(Mhz): 125; Rating: Military; Technology Family: AS; Schmitt Trigger: No; Output Drive (IOL/IOH)(Max)(mA): 48/-15; Output Logic: Non-inverted; 3-State Output: Yes; tpd @ Nom Voltage(Max)(ns): 9; DatasheetVersion: SDAS167C; PackageReference: J0020A; Input Type: TTL; Operating Temperature Range(C): -55 to 125; ComponentLink1Description: Manufacturer URL; ComponentLink1URL: http://www.ti.com/; ComponentLink2Description: Datasheet; ComponentLink2URL: http://www.ti.com/lit/ds/symlink/sn54as374.pdf; ComponentLink3Description: Package Specification; ComponentLink3URL: http://www.ti.com/lit/ml/mcer002d/mcer002d.pdf
footprint J0020A (DIP, 20-Leads, Body 26.9x7.2mm, Pitch 2.54mm)
part A pins: 1 OE (in), 2 1Q (hiz), 3 1D (in), 4 2D (in), 5 2Q (hiz), 6 3Q (hiz), 7 3D (in), 8 4D (in), 9 4Q (hiz), 11 CLK (in), 12 5Q (hiz), 13 5D (in), 14 6D (in), 15 6Q (hiz), 16 7Q (hiz), 17 7D (in), 18 8D (in), 19 8Q (hiz)
part B pins: 10 GND (power), 20 VCC (power)

## SN54AS573AJ
designator U?
Octal D-type Transparent Latches With 3-State Outputs, J0020A, TUBE; Generic Part Number: SN54AS573A; Manufacturer: Texas Instruments; PartNumber: SN54AS573AJ; VCC(Min)(V): 4.5; VCC(Max)(V): 5.5; Output Type: TTL; Logic: True; ICC @ Nom Voltage(Max)(mA): 106; Bits(#): 8; F @ Nom Voltage(Max)(Mhz): 125; Rating: Military; Technology Family: AS; Schmitt Trigger: No; Output Drive (IOL/IOH)(Max)(mA): 48/-15; Output Logic: Inverted; 3-State Output: Yes; DatasheetVersion: SDAS048D; PackageReference: J0020A; Input Type: TTL; Operating Temperature Range(C): -55 to 125; tpd @ Nom Voltage(Max)(ns): 8; ComponentLink1Description: Manufacturer URL; ComponentLink1URL: http://www.ti.com/; ComponentLink2Description: Datasheet; ComponentLink2URL: http://www.ti.com/lit/ds/symlink/sn54as573a.pdf; ComponentLink3Description: Package Specification; ComponentLink3URL: http://www.ti.com/lit/ml/mcer002d/mcer002d.pdf
footprint J0020A (DIP, 20-Leads, Body 26.9x7.2mm, Pitch 2.54mm)
pins: 1 ~{OE} (in), 2 1D (in), 3 2D (in), 4 3D (in), 5 4D (in), 6 5D (in), 7 6D (in), 8 7D (in), 9 8D (in), 10 GND (power), 11 LE (in), 12 8Q (hiz), 13 7Q (hiz), 14 6Q (hiz), 15 5Q (hiz), 16 4Q (hiz), 17 3Q (hiz), 18 2Q (hiz), 19 1Q (hiz), 20 VCC (power)

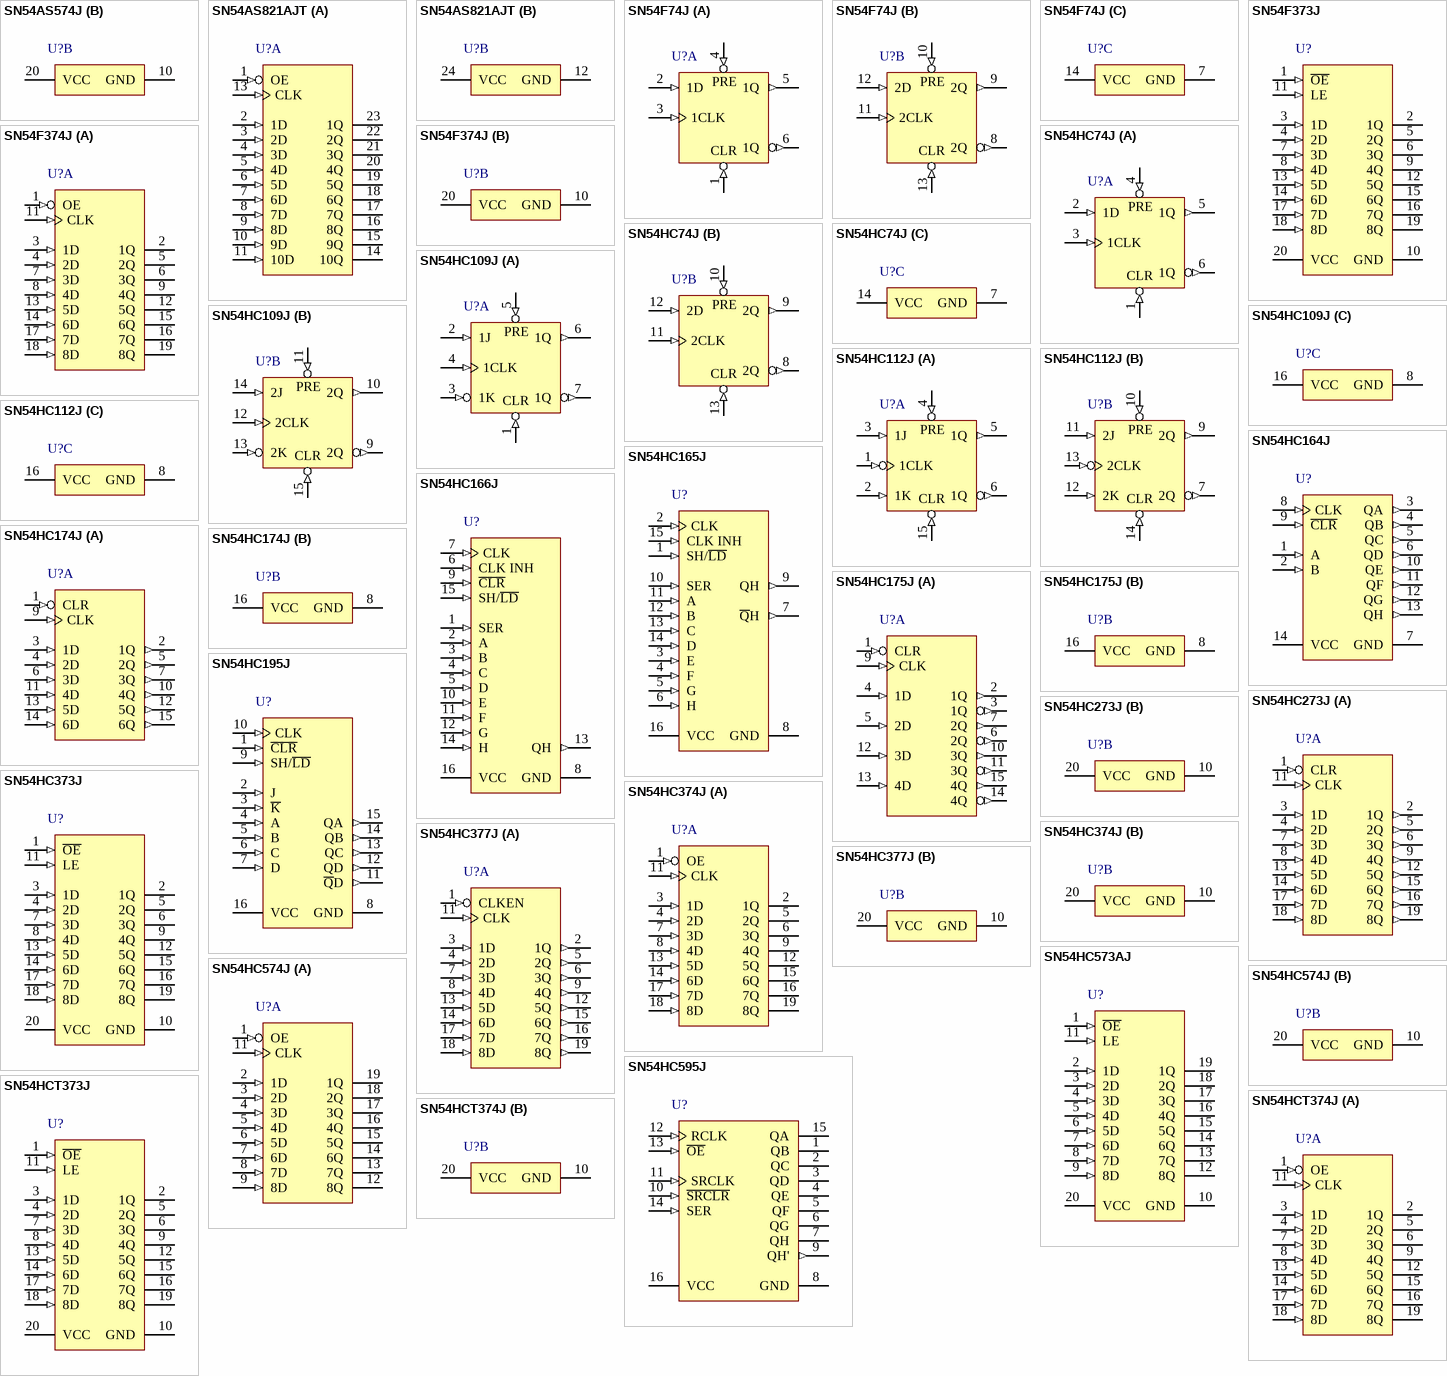
[diagram p37: symbols SN54AS574J to SN54HCT374J]

## SN54AS574J
designator U?
Octal D-type Edge-Triggered Flip-Flops With 3-State Outputs, J0020A, TUBE; Generic Part Number: SN54AS574; Manufacturer: Texas Instruments; PartNumber: SN54AS574J; VCC(Min)(V): 4.5; VCC(Max)(V): 5.5; Output Type: TTL; ICC @ Nom Voltage(Max)(mA): 142; Bits(#): 8; F @ Nom Voltage(Max)(Mhz): 125; Rating: Military; Technology Family: AS; Schmitt Trigger: No; Output Drive (IOL/IOH)(Max)(mA): 48/-15; Output Logic: Non-inverted; 3-State Output: Yes; tpd @ Nom Voltage(Max)(ns): 9; DatasheetVersion: SDAS165B; PackageReference: J0020A; Input Type: TTL; Operating Temperature Range(C): -55 to 125; ComponentLink1Description: Manufacturer URL; ComponentLink1URL: http://www.ti.com/; ComponentLink2Description: Datasheet; ComponentLink2URL: http://www.ti.com/lit/ds/symlink/sn54as574.pdf; ComponentLink3Description: Package Specification; ComponentLink3URL: http://www.ti.com/lit/ml/mcer002d/mcer002d.pdf
footprint J0020A (DIP, 20-Leads, Body 26.9x7.2mm, Pitch 2.54mm)
part A pins: 1 OE (in), 2 1D (in), 3 2D (in), 4 3D (in), 5 4D (in), 6 5D (in), 7 6D (in), 8 7D (in), 9 8D (in), 11 CLK (in), 12 8Q (hiz), 13 7Q (hiz), 14 6Q (hiz), 15 5Q (hiz), 16 4Q (hiz), 17 3Q (hiz), 18 2Q (hiz), 19 1Q (hiz)
part B pins: 10 GND (power), 20 VCC (power)

## SN54AS821AJT
designator U?
10-Bit Bus Interface Flip-Flops With 3-State Outputs, JT0024A, TUBE; Generic Part Number: SN54AS821A; Manufacturer: Texas Instruments; PartNumber: SN54AS821AJT; VCC(Min)(V): 4.5; VCC(Max)(V): 5.5; Output Type: TTL; ICC @ Nom Voltage(Max)(mA): 113; Bits(#): 10; F @ Nom Voltage(Max)(Mhz): 125; Rating: Military; Technology Family: AS; Schmitt Trigger: No; Output Drive (IOL/IOH)(Max)(mA): 48/-24; Output Logic: Non-inverted; 3-State Output: Yes; tpd @ Nom Voltage(Max)(ns): 13; DatasheetVersion: SDAS230A; PackageReference: JT0024A; Input Type: TTL; Operating Temperature Range(C): -55 to 125; Code_JEDEC: MO-058 AA; ComponentLink1Description: Manufacturer URL; ComponentLink1URL: http://www.ti.com/; ComponentLink2Description: Datasheet; ComponentLink2URL: http://www.ti.com/lit/ds/symlink/sn54as821a.pdf; ComponentLink3Description: Package Specification; ComponentLink3URL: http://www.ti.com/lit/ml/mcer004a/mcer004a.pdf
footprint JT0024A (DIP, 24-Leads, Body 7.2x32.5mm, Pitch 2.54mm)
part A pins: 1 OE (in), 2 1D (in), 3 2D (in), 4 3D (in), 5 4D (in), 6 5D (in), 7 6D (in), 8 7D (in), 9 8D (in), 10 9D (in), 11 10D (in), 13 CLK (in), 14 10Q (hiz), 15 9Q (hiz), 16 8Q (hiz), 17 7Q (hiz), 18 6Q (hiz), 19 5Q (hiz), 20 4Q (hiz), 21 3Q (hiz), 22 2Q (hiz), 23 1Q (hiz)
part B pins: 12 GND (power), 24 VCC (power)

## SN54F74J
designator U?
Dual Positive-Edge-Triggered D-type Flip-Flops With Clear And Preset, J0014A, TUBE; Generic Part Number: SN54F74; Manufacturer: Texas Instruments; PartNumber: SN54F74J; VCC(Min)(V): 4.5; VCC(Max)(V): 5.5; Output Type: TTL; Output: 3S; ICC @ Nom Voltage(Max)(mA): 16; Bits(#): 2; F @ Nom Voltage(Max)(Mhz): 70; Rating: Military; Technology Family: F; Schmitt Trigger: No; Output Drive (IOL/IOH)(Max)(mA): 20/-1; Output Logic: Inverted,Non-inverted; tpd @ Nom Voltage(Max)(ns): 9.2; DatasheetVersion: SDFS046A; PackageReference: J0014A; Input Type: TTL; Operating Temperature Range(C): -55 to 125; 3-State Output: No; ComponentLink1Description: Manufacturer URL; ComponentLink1URL: http://www.ti.com/; ComponentLink2Description: Datasheet; ComponentLink2URL: http://www.ti.com/lit/ds/symlink/sn54f74.pdf; ComponentLink3Description: Package Specification; ComponentLink3URL: http://www.ti.com/lit/ml/mcer002d/mcer002d.pdf
footprint J0014A (DIP, 14-Leads, Body 19.95x7.2mm, Pitch 2.54mm)
part A pins: 1 1~{CLR} (in), 2 1D (in), 3 1CLK (in), 4 1~{PRE} (in), 5 1Q (out), 6 1Q (out)
part B pins: 8 2Q (out), 9 2Q (out), 10 2~{PRE} (in), 11 2CLK (in), 12 2D (in), 13 2~{CLR} (in)
part C pins: 7 GND (power), 14 VCC (power)
part A text: PRE; CLR
part B text: PRE; CLR

## SN54F373J
designator U?
Octal Transparent D-type Latches With 3-State Outputs, J0020A, TUBE; Generic Part Number: SN54F373; Manufacturer: Texas Instruments; PartNumber: SN54F373J; VCC(Min)(V): 4.5; VCC(Max)(V): 5.5; Output Type: TTL; Logic: True; ICC @ Nom Voltage(Max)(mA): 55; Bits(#): 8; F @ Nom Voltage(Max)(Mhz): 70; Rating: Military; Technology Family: F; Schmitt Trigger: No; Output Drive (IOL/IOH)(Max)(mA): 24/-3; Output Logic: Non-inverted; 3-State Output: Yes; DatasheetVersion: SDFS076A; PackageReference: J0020A; Input Type: TTL; Operating Temperature Range(C): -55 to 125; tpd @ Nom Voltage(Max)(ns): 8; ComponentLink1Description: Manufacturer URL; ComponentLink1URL: http://www.ti.com/; ComponentLink2Description: Datasheet; ComponentLink2URL: http://www.ti.com/lit/ds/symlink/sn54f373.pdf; ComponentLink3Description: Package Specification; ComponentLink3URL: http://www.ti.com/lit/ml/mcer002d/mcer002d.pdf
footprint J0020A (DIP, 20-Leads, Body 26.9x7.2mm, Pitch 2.54mm)
pins: 1 ~{OE} (in) "Output Enable", 2 1Q (hiz) "1Q Output", 3 1D (in) "1D Input", 4 2D (in) "2D Input", 5 2Q (hiz) "2Q Output", 6 3Q (hiz) "3Q Output", 7 3D (in) "3D Input", 8 4D (in) "4D Input", 9 4Q (hiz) "4Q Output", 10 GND (power) "Ground Pin", 11 LE (in) "Latch Enable", 12 5Q (hiz) "5Q Output", 13 5D (in) "5D Input", 14 6D (in) "6D Input", 15 6Q (hiz) "6Q Output", 16 7Q (hiz) "7Q Output", 17 7D (in) "7D Input", 18 8D (in) "8D Input", 19 8Q (hiz) "8Q Output", 20 VCC (power) "Power Pin"

## SN54F374J
designator U?
Octal Edge-Triggered D-type Flip-Flops With 3-State Outputs, J0020A, TUBE; Generic Part Number: SN54F374; Manufacturer: Texas Instruments; PartNumber: SN54F374J; VCC(Min)(V): 4.5; VCC(Max)(V): 5.5; Output Type: TTL; ICC @ Nom Voltage(Max)(mA): 86; Bits(#): 8; F @ Nom Voltage(Max)(Mhz): 70; Rating: Military; Technology Family: F; Schmitt Trigger: No; Output Drive (IOL/IOH)(Max)(mA): 24/-3; Output Logic: Non-inverted; 3-State Output: Yes; tpd @ Nom Voltage(Max)(ns): 10; DatasheetVersion: SDFS077A; PackageReference: J0020A; Input Type: TTL; Operating Temperature Range(C): -55 to 125; ComponentLink1Description: Manufacturer URL; ComponentLink1URL: http://www.ti.com/; ComponentLink2Description: Datasheet; ComponentLink2URL: http://www.ti.com/lit/ds/symlink/sn54f374.pdf; ComponentLink3Description: Package Specification; ComponentLink3URL: http://www.ti.com/lit/ml/mcer002d/mcer002d.pdf
footprint J0020A (DIP, 20-Leads, Body 26.9x7.2mm, Pitch 2.54mm)
part A pins: 1 OE (in), 2 1Q (hiz), 3 1D (in), 4 2D (in), 5 2Q (hiz), 6 3Q (hiz), 7 3D (in), 8 4D (in), 9 4Q (hiz), 11 CLK (in), 12 5Q (hiz), 13 5D (in), 14 6D (in), 15 6Q (hiz), 16 7Q (hiz), 17 7D (in), 18 8D (in), 19 8Q (hiz)
part B pins: 10 GND (power), 20 VCC (power)

## SN54HC74J
designator U?
Dual D-type Positive-Edge-Triggered Flip-Flops With Clear And Preset, J0014A, TUBE; Generic Part Number: SN54HC74; Manufacturer: Texas Instruments; PartNumber: SN54HC74J; VCC(Min)(V): 2; VCC(Max)(V): 6; Output Type: CMOS; Output: 3S; ICC @ Nom Voltage(Max)(mA): 0.04; F @ Nom Voltage(Max)(Mhz): 28; Rating: Military; Technology Family: HC; Voltage(Nom)(V): 3.3,5; Schmitt Trigger: No; Output Drive (IOL/IOH)(Max)(mA): 5.2/-5.2; Output Logic: Inverted,Non-inverted; tpd @ Nom Voltage(Max)(ns): 37; DatasheetVersion: SCLS094D; PackageReference: J0014A; Input Type: CMOS; Bits(#): 2; Operating Temperature Range(C): -55 to 125; 3-State Output: No; ComponentLink1Description: Manufacturer URL; ComponentLink1URL: http://www.ti.com/; ComponentLink2Description: Datasheet; ComponentLink2URL: http://www.ti.com/lit/ds/symlink/sn54hc74.pdf; ComponentLink3Description: Package Specification; ComponentLink3URL: http://www.ti.com/lit/ml/mcer002d/mcer002d.pdf
footprint J0014A (DIP, 14-Leads, Body 19.95x7.2mm, Pitch 2.54mm)
part A pins: 1 1~{CLR} (in), 2 1D (in), 3 1CLK (in), 4 1~{PRE} (in), 5 1Q (out), 6 1Q (out)
part B pins: 8 2Q (out), 9 2Q (out), 10 2~{PRE} (in), 11 2CLK (in), 12 2D (in), 13 2~{CLR} (in)
part C pins: 7 GND (power), 14 VCC (power)
part A text: PRE; CLR
part B text: PRE; CLR

## SN54HC109J
designator U?
Dual J-K Positive-Edge-Triggered Flip-Flops With Clear And Preset, J0016A, TUBE; Generic Part Number: SN54HC109; Manufacturer: Texas Instruments; PartNumber: SN54HC109J; VCC(Min)(V): 2; VCC(Max)(V): 6; Output Type: CMOS; Output: 2S; Rating: Military; Technology Family: HC; Schmitt Trigger: No; DatasheetVersion: SCLS470A; PackageReference: J0016A; Input Type: CMOS; Bits(#): 2; Operating Temperature Range(C): -55 to 125; ComponentLink1Description: Manufacturer URL; ComponentLink1URL: http://www.ti.com/; ComponentLink2Description: Datasheet; ComponentLink2URL: http://www.ti.com/lit/ds/symlink/sn54hc109.pdf; ComponentLink3Description: Package Specification; ComponentLink3URL: http://www.ti.com/lit/ml/mcer002d/mcer002d.pdf
footprint J0016A (DIP, 16-Leads, Body 21.35x7.2mm, Pitch 2.54mm)
part A pins: 1 1~{CLR} (in), 2 1J (in), 3 1K (in), 4 1CLK (in), 5 1~{PRE} (in), 6 1Q (out), 7 1Q (out)
part B pins: 9 2Q (out), 10 2Q (out), 11 2~{PRE} (in), 12 2CLK (in), 13 2K (in), 14 2J (in), 15 2~{CLR} (in)
part C pins: 8 GND (power), 16 VCC (power)
part A text: PRE; CLR
part B text: PRE; CLR

## SN54HC112J
designator U?
Dual J-K Negative-Edge-Triggered Flip-Flops With Clear And Preset, J0016A, TUBE; Generic Part Number: SN54HC112; Manufacturer: Texas Instruments; PartNumber: SN54HC112J; VCC(Min)(V): 2; VCC(Max)(V): 6; Output Type: CMOS; Output: 2S; Rating: Military; Technology Family: HC; Schmitt Trigger: No; DatasheetVersion: SCLS099F; PackageReference: J0016A; Input Type: CMOS; Bits(#): 2; Operating Temperature Range(C): -55 to 125; ComponentLink1Description: Manufacturer URL; ComponentLink1URL: http://www.ti.com/; ComponentLink2Description: Datasheet; ComponentLink2URL: http://www.ti.com/lit/ds/symlink/sn54hc112.pdf; ComponentLink3Description: Package Specification; ComponentLink3URL: http://www.ti.com/lit/ml/mcer002d/mcer002d.pdf
footprint J0016A (DIP, 16-Leads, Body 21.35x7.2mm, Pitch 2.54mm)
part A pins: 1 1CLK (in), 2 1K (in), 3 1J (in), 4 1~{PRE} (in), 5 1Q (out), 6 1Q (out), 15 1~{CLR} (in)
part B pins: 7 2Q (out), 9 2Q (out), 10 2~{PRE} (in), 11 2J (in), 12 2K (in), 13 2CLK (in), 14 2~{CLR} (in)
part C pins: 8 GND (power), 16 VCC (power)
part A text: PRE; CLR
part B text: PRE; CLR

## SN54HC164J
designator U?
8-Bit Parallel-Out Serial Shift Registers, J0014A, TUBE; Generic Part Number: SN54HC164; Manufacturer: Texas Instruments; PartNumber: SN54HC164J; Technology Family: HC; VCC(Min)(V): 2; VCC(Max)(V): 6; F @ Nom Voltage(Max)(Mhz): 28; ICC @ Nom Voltage(Max)(mA): 0.08; tpd @ Nom Voltage(Max)(ns): 38; Output Drive (IOL/IOH)(Max)(mA): 5.2/-5.2; Input Type: CMOS; 3-State Output: No; Rating: Military; DatasheetVersion: SCLS115F; PackageReference: J0014A; Voltage(Nom)(V): 6; Output Type: CMOS; Operating Temperature Range(C): -55 to 125; ComponentLink1Description: Manufacturer URL; ComponentLink1URL: http://www.ti.com/; ComponentLink2Description: Datasheet; ComponentLink2URL: http://www.ti.com/lit/ds/symlink/sn54hc164.pdf; ComponentLink3Description: Package Specification; ComponentLink3URL: http://www.ti.com/lit/ml/mcer002d/mcer002d.pdf
footprint J0014A (DIP, 14-Leads, Body 19.95x7.2mm, Pitch 2.54mm)
pins: 1 A (in) "Serial input A", 2 B (in) "Serial input B", 3 QA (out) "Output A", 4 QB (out) "Output B", 5 QC (out) "Output C", 6 QD (out) "Output D", 7 GND (power) "Ground pin", 8 CLK (in) "Storage clock", 9 ~{CLR} (in) "Storage clear", 10 QE (out) "Output E", 11 QF (out) "Output F", 12 QG (out) "Output G", 13 QH (out) "Output H", 14 VCC (power) "Power pin"